# EAGLE library part HAMMOND_164 (library mes_trafo)
Hammond Transformer 164, Single Primary, Dual Secondary
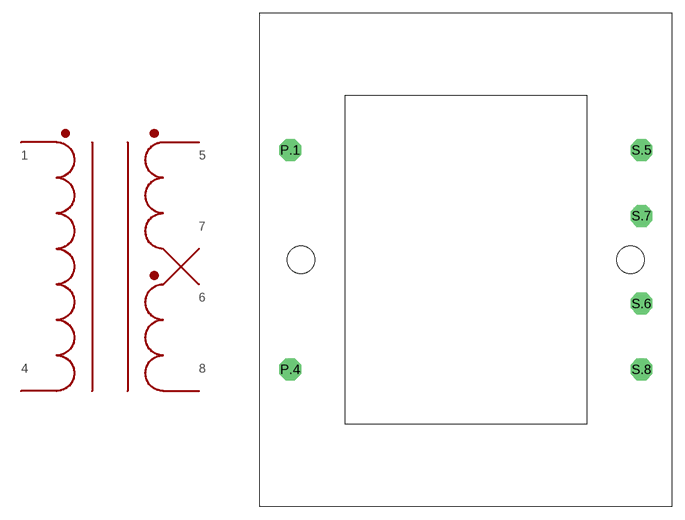
[diagram p0: symbol with the pads of H; footprint H]

Designator prefix -

## HAMMOND_164H  [H]
P.1  P.1
P.4  P.4
S.5  S.5
S.6  S.6
S.7  S.7
S.8  S.8

## Footprint H (pad centres in mm)
drill 1.1 pad 2.54 octagon: P.1 -20.32,12.7; P.4 -20.32,-12.7; S.5 20.32,12.7; S.6 20.32,-5.08; S.7 20.32,5.08; S.8 20.32,-12.7
hole 3.2 at -19.05,0
hole 3.2 at 19.05,0